# Altium schematic symbol library BSC010N04LS.Schlib: 1 symbol
Pins are listed as number, name and electrical type; pins without a type are passive.

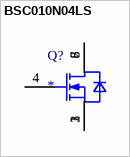
[diagram p0: symbol BSC010N04LS]

## BSC010N04LS
designator Q?
N-Channel 40 V 38A (Ta), 100A (Tc) 2.5W (Ta), 139W (Tc) Surface Mount PG-TDSON-8 FL
pins: 1 SOURCE@1, 2 SOURCE@2, 3 SOURCE@3, 4 GATE, 5 DRAIN@1, 6 DRAIN@2, 7 DRAIN@3, 8 DRAIN@4